# Altium footprint library MainLib.pcblib: 23 footprints (part 1 of 2)
Each footprint in its own frame and in the unit in brackets; x right, y up, seen from the top. Pads: shape width x height; smd on the part's side, far side on the other; paste and mask are expansions set on the pad; w line width, h text height; cw(c..) or ccw(c..) is an arc to the next point about the centre after c.
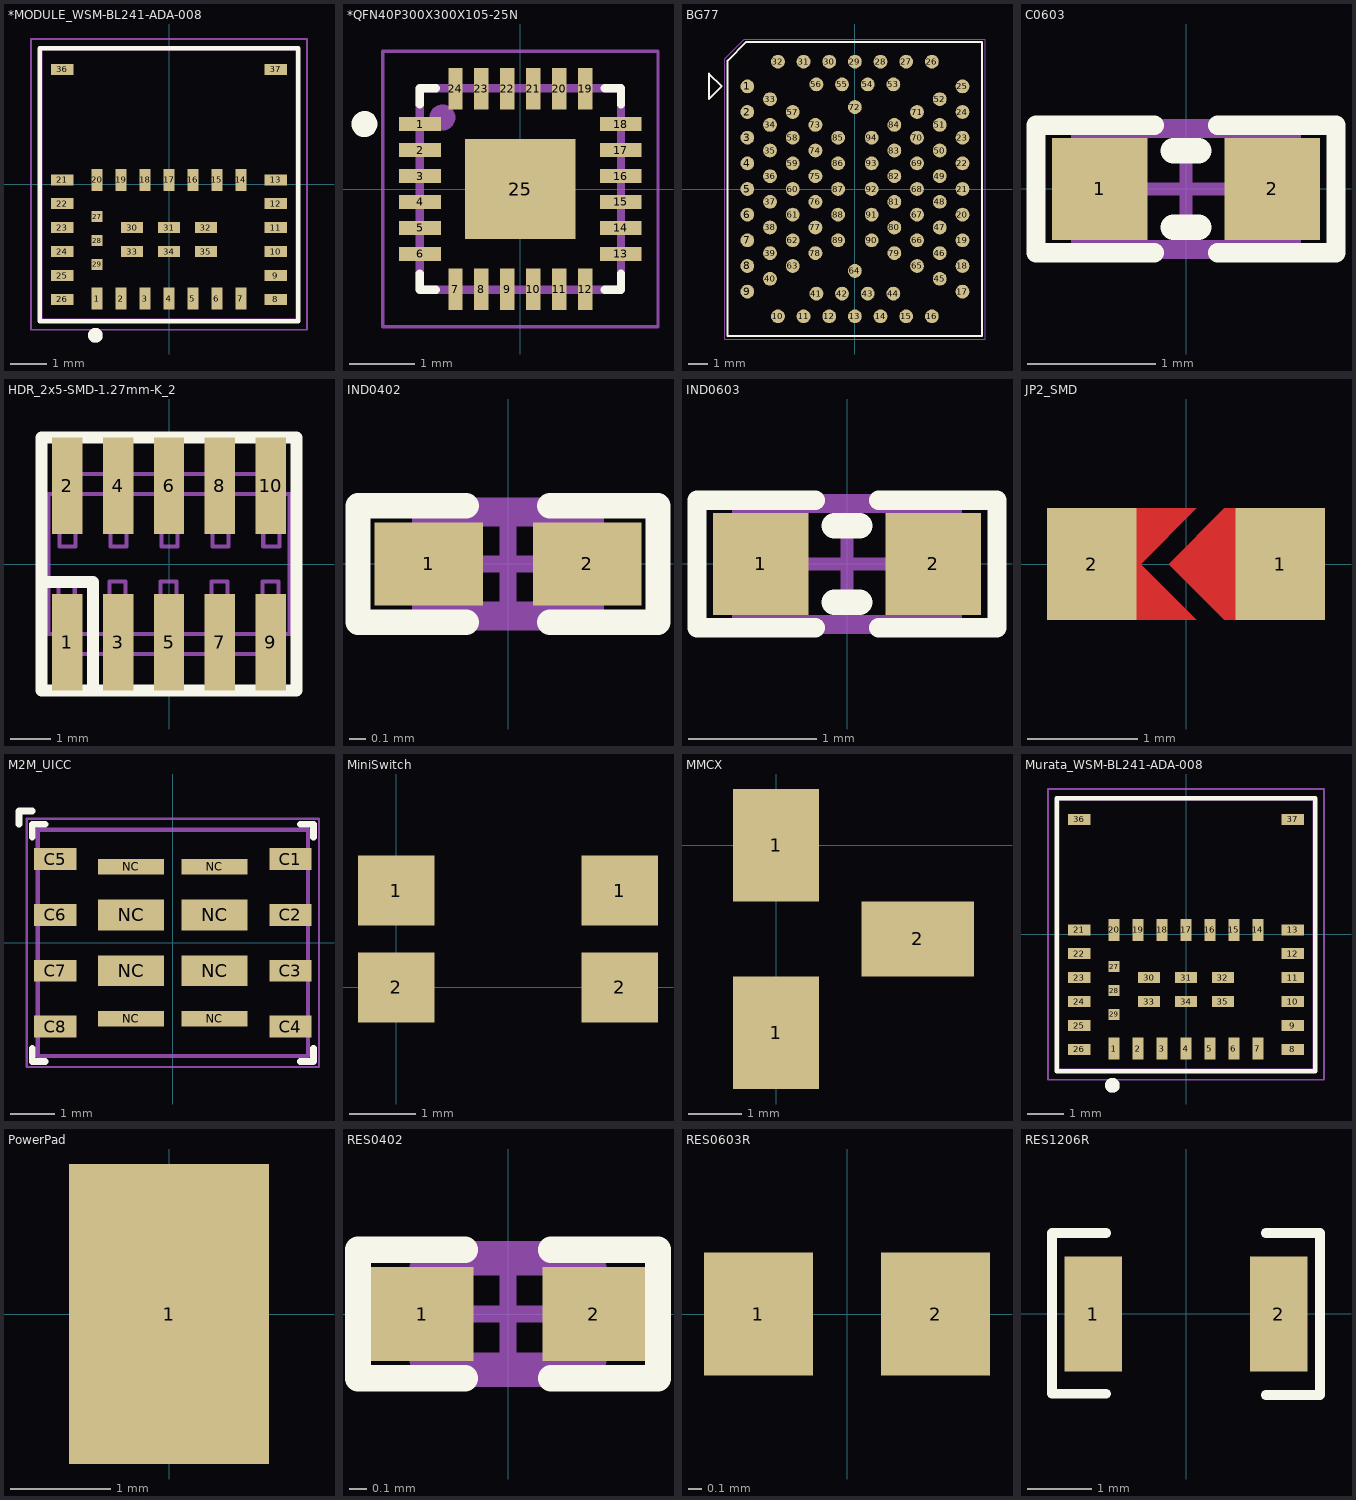
[diagram p0: the footprints below, top view; thin cyan lines are the x and y axes]

## *MODULE_WSM-BL241-ADA-008 [mm]
pads (37):
  rect 0.3x0.6 smd: 1(-1.95,-3.1) 2(-1.3,-3.1) 3(-0.65,-3.1) 4(0,-3.1) 5(0.65,-3.1) 6(1.3,-3.1) 7(1.95,-3.1) 14(1.95,0.125) 15(1.3,0.125) 16(0.65,0.125) 17(0,0.125) 18(-0.65,0.125) 19(-1.3,0.125) 20(-1.95,0.125)
  rect 0.6x0.3 smd: 8(2.9,-3.125) 9(2.9,-2.475) 10(2.9,-1.825) 11(2.9,-1.175) 12(2.9,-0.525) 13(2.9,0.125) 21(-2.9,0.125) 22(-2.9,-0.525) 23(-2.9,-1.175) 24(-2.9,-1.825) 25(-2.9,-2.475) 26(-2.9,-3.125) 30(-1,-1.175) 31(0,-1.175) 32(1,-1.175) 33(-1,-1.825) 34(0,-1.825) 35(1,-1.825) 36(-2.9,3.125) 37(2.9,3.125)
  rect 0.3x0.3 smd: 27(-1.95,-0.875) 28(-1.95,-1.525) 29(-1.95,-2.175)
Top Overlay:
  circle w0.2: c-2,-4.1 r0.1
  lines w0.127: -3.515,-3.715 -3.515,3.7 3.515,3.7 3.515,-3.715 -3.515,-3.715
Mechanical 4:
  circle w0.2: c-2,-4.1 r0.1
  circle w0.2: c-2,-4.1 r0.1
  lines w0.127: -3.5,-3.7 3.5,-3.7 ; -3.5,-3.7 -3.5,3.7 ; -3.5,-3.7 3.5,-3.7 ; -3.5,-3.7 -3.5,3.7 ; -3.5,3.7 3.5,3.7 ; -3.5,3.7 3.5,3.7 ; 3.5,-3.7 3.5,3.7 ; 3.5,-3.7 3.5,3.7
Mechanical 16:
  lines w0.05: -3.75,-3.95 3.75,-3.95 3.75,3.95 -3.75,3.95 -3.75,-3.95
3D body: height 0.76, standoff 0, extent -3.505,-3.708 3.505,3.683

## *QFN40P300X300X105-25N [mm]
pads (25):
  rect 0.64x0.22 smd: 1(-1.545,1) 2(-1.545,0.6) 3(-1.545,0.2) 4(-1.545,-0.2) 5(-1.545,-0.6) 6(-1.545,-1) 13(1.545,-1) 14(1.545,-0.6) 15(1.545,-0.2) 16(1.545,0.2) 17(1.545,0.6) 18(1.545,1)
  rect 0.22x0.64 smd: 7(-1,-1.545) 8(-0.6,-1.545) 9(-0.2,-1.545) 10(0.2,-1.545) 11(0.6,-1.545) 12(1,-1.545) 19(1,1.545) 20(0.6,1.545) 21(0.2,1.545) 22(-0.2,1.545) 23(-0.6,1.545) 24(-1,1.545)
  rect 1.7x1.54 smd: 25(0,0)
Top Overlay:
  circle w0.2: c-2.4,1 r0.1
  lines w0.127: -1.55,-1.3 -1.55,-1.55 -1.3,-1.55 ; -1.55,1.3 -1.55,1.55 -1.3,1.55 ; 1.3,-1.55 1.55,-1.55 1.55,-1.3 ; 1.3,1.55 1.55,1.55 1.55,1.3
Top Paste:
  region: 0.08,-0.08 0.69,-0.08 0.69,-0.61 0.08,-0.61
  region: -0.691,-0.08 -0.08,-0.08 -0.08,-0.611 -0.691,-0.611
  region: 0.08,0.61 0.69,0.61 0.69,0.08 0.08,0.08
  region: -0.69,0.61 -0.08,0.61 -0.08,0.08 -0.69,0.08
Mechanical 4:
  circle w0.2: c-1.2,1.1 r0.1
  circle w0.2: c-1.2,1.1 r0.1
  lines w0.127: -1.55,-1.55 -1.55,1.55 ; -1.55,-1.55 1.55,-1.55 ; -1.55,-1.55 -1.55,1.55 ; -1.55,-1.55 1.55,-1.55 ; -1.55,1.55 1.55,1.55 ; -1.55,1.55 1.55,1.55 ; 1.55,-1.55 1.55,1.55 ; 1.55,-1.55 1.55,1.55
Mechanical 16:
  lines w0.05: -2.12,-2.12 -2.12,2.12 2.12,2.12 2.12,-2.12 -2.12,-2.12
3D body "ICM-20948--3DModel-STEP-56544.STEP": height 1, standoff -0.05, extent -1.5,-1.5 1.5,1.5

## BG77 [mm]
height 1.7
pads (94):
  round 0.7 smd mask+0.05: 1(-5.45,5.2) 2(-5.45,3.9) 3(-5.45,2.6) 4(-5.45,1.3) 5(-5.45,0) 6(-5.45,-1.3) 7(-5.45,-2.6) 8(-5.45,-3.9) 9(-5.45,-5.2) 10(-3.9,-6.45) 11(-2.6,-6.45) 12(-1.3,-6.45) 13(0,-6.45) 14(1.3,-6.45) 15(2.6,-6.45) 16(3.9,-6.45) 17(5.45,-5.2) 18(5.45,-3.9) 19(5.45,-2.6) 20(5.45,-1.3) 21(5.45,0) 22(5.45,1.3) 23(5.45,2.6) 24(5.45,3.9) 25(5.45,5.2) 26(3.9,6.45) 27(2.6,6.45) 28(1.3,6.45) 29(0,6.45) 30(-1.3,6.45) 31(-2.6,6.45) 32(-3.9,6.45) 33(-4.3,4.55) 34(-4.3,3.25) 35(-4.3,1.95) 36(-4.3,0.65) 37(-4.3,-0.65) 38(-4.3,-1.95) 39(-4.3,-3.25) 40(-4.3,-4.55) 41(-1.95,-5.3) 42(-0.65,-5.3) 43(0.65,-5.3) 44(1.95,-5.3) 45(4.3,-4.55) 46(4.3,-3.25) 47(4.3,-1.95) 48(4.3,-0.65) 49(4.3,0.65) 50(4.3,1.95) 51(4.3,3.25) 52(4.3,4.55) 53(1.95,5.3) 54(0.65,5.3) 55(-0.65,5.3) 56(-1.95,5.3) 57(-3.15,3.9) 58(-3.15,2.6) 59(-3.15,1.3) 60(-3.15,0) 61(-3.15,-1.3) 62(-3.15,-2.6) 63(-3.15,-3.9) 64(0,-4.15) 65(3.15,-3.9) 66(3.15,-2.6) 67(3.15,-1.3) 68(3.15,0) 69(3.15,1.3) 70(3.15,2.6) 71(3.15,3.9) 72(0,4.15) 73(-2,3.25) 74(-2,1.95) 75(-2,0.65) 76(-2,-0.65) 77(-2,-1.95) 78(-2,-3.25) 79(2,-3.25) 80(2,-1.95) 81(2,-0.65) 82(2,0.65) 83(2,1.95) 84(2,3.25) 85(-0.85,2.6) 86(-0.85,1.3) 87(-0.85,0) 88(-0.85,-1.3) 89(-0.85,-2.6) 90(0.85,-2.6) 91(0.85,-1.3) 92(0.85,0) 93(0.85,1.3) 94(0.85,2.6)
Top Overlay:
  lines w0.1: -7.4,4.55 -7.4,5.85 -6.75,5.2 -7.4,4.55 ; -6.45,-7.45 -6.45,6.5 -5.5,7.45 6.45,7.45 6.45,-7.45 -6.45,-7.45
Mechanical 1:
  lines w0.01: -6.6,-7.6 -6.6,6.6 -5.6,7.6 6.6,7.6 6.6,-7.6 -6.6,-7.6
3D body "Quectel_BG77_3D_Dimensions.stp": height 1.7, standoff 0, extent -6.45,-7.45 6.45,7.45

## C0603 [mm]
pads (2):
  rect 0.75x0.8 smd: 1(-0.675,0) 2(0.675,0)
Top Overlay:
  lines w0.152: -0.25,-0.5 -1.175,-0.5 -1.175,0.5 -0.25,0.5 ; 0.25,-0.5 1.175,-0.5 1.175,0.5 0.25,0.5
  lines w0.2: -0.1,-0.3 0.1,-0.3 ; -0.1,0.3 0.1,0.3
Mechanical 7:
  lines w0.1: -0.85,-0.45 0.85,-0.45 0.85,0.45 -0.85,0.45 -0.85,-0.45
Mechanical 15:
  lines w0.1: -0.45,0 0.45,0 ; 0,-0.45 0,0.45 ; -1.175,-0.5 -1.175,0.5 1.175,0.5 1.175,-0.5 -1.175,-0.5
3D body "User Library-Chip Capacitor 0603.step": height 0.8, standoff 0, extent -0.8,-0.381 0.8,0.479

## HDR_2x5-SMD-1.27mm-K_2 [mm]
pads (10):
  rect 0.76x2.4 smd: 1(-2.54,-1.95) 2(-2.54,1.95) 3(-1.27,-1.95) 4(-1.27,1.95) 5(0,-1.95) 6(0,1.95) 7(1.27,-1.95) 8(1.27,1.95) 9(2.54,-1.95) 10(2.54,1.95)
Top Overlay:
  lines w0.3: -3.175,-0.45 -1.9,-0.45 -1.9,-3.15 ; -3.175,-3.15 3.175,-3.15 3.175,3.15 -3.175,3.15 -3.175,-3.15
Mechanical 7:
  lines w0.1: -2.74,-1.75 -2.74,-2.459 ccw(c-2.54,-2.459) -2.34,-2.459 -2.34,-2.25 ; -2.74,1.75 -2.74,2.459 cw(c-2.54,2.459) -2.34,2.459 -2.34,2.25 ; -2.5,-1.75 -2.5,-2.25 -1.25,-2.25 ; -2.5,1.75 -2.5,2.25 2.5,2.25 2.5,1.75 ; -1.47,-2.25 -1.47,-2.459 ccw(c-1.27,-2.459) -1.07,-2.459 -1.07,-2.25 ; -1.47,2.25 -1.47,2.459 cw(c-1.27,2.459) -1.07,2.459 -1.07,2.25 ; -1.25,-1.75 -1.25,-2.25 ; -0.2,-2.25 -0.2,-2.459 ccw(c0,-2.459) 0.2,-2.459 0.2,-2.25 ; -0.2,2.25 -0.2,2.459 cw(c0,2.459) 0.2,2.459 0.2,2.25 ; 1.07,-2.25 1.07,-2.459 ccw(c1.27,-2.459) 1.47,-2.459 1.47,-2.25 ; 1.07,2.25 1.07,2.459 cw(c1.27,2.459) 1.47,2.459 1.47,2.25 ; 1.25,-1.75 1.25,-2.25 ; 2.34,-2.25 2.34,-2.459 ccw(c2.54,-2.459) 2.74,-2.459 2.74,-1.75 ; 2.34,2.25 2.34,2.459 cw(c2.54,2.459) 2.74,2.459 2.74,1.75 ; 2.5,-1.75 2.5,-2.25 1.25,-2.25 ; -1.25,-2.25 1.25,-2.25 ; -3,-1.75 -3,1.75 3,1.75 3,-1.75 -3,-1.75 ; -2.75,-0.835 -2.75,-0.435 -2.35,-0.435 -2.35,-0.835 -2.75,-0.835 ; -2.73,0.435 -2.73,0.835 -2.33,0.835 -2.33,0.435 -2.73,0.435 ; -1.48,-0.835 -1.48,-0.435 -1.08,-0.435 -1.08,-0.835 -1.48,-0.835 ; -1.46,0.435 -1.46,0.835 -1.06,0.835 -1.06,0.435 -1.46,0.435 ; -0.21,-0.835 -0.21,-0.435 0.19,-0.435 0.19,-0.835 -0.21,-0.835 ; -0.19,0.435 -0.19,0.835 0.21,0.835 0.21,0.435 -0.19,0.435 ; 1.06,-0.835 1.06,-0.435 1.46,-0.435 1.46,-0.835 1.06,-0.835 ; 1.08,0.435 1.08,0.835 1.48,0.835 1.48,0.435 1.08,0.435 ; 2.33,-0.835 2.33,-0.435 2.73,-0.435 2.73,-0.835 2.33,-0.835 ; 2.35,0.435 2.35,0.835 2.75,0.835 2.75,0.435 2.35,0.435
3D body "Samtec-FTSH-105-01-F-DV-K.step": height 6.11, standoff -0.01, extent -3.137,-2.921 3.137,2.921

## IND0402 [mm]
pads (2):
  rect 0.65x0.5 smd: 1(-0.475,0) 2(0.475,0)
Top Overlay:
  lines w0.152: -0.25,-0.35 -0.9,-0.35 -0.9,0.35 -0.25,0.35 ; 0.25,-0.35 0.9,-0.35 0.9,0.35 0.25,0.35
Mechanical 7:
  lines w0.1: -0.525,-0.275 -0.525,0.275 0.525,0.275 0.525,-0.275 -0.525,-0.275
  text ".Designator" at -0.432,-0.152 h0.3
Mechanical 15:
  lines w0.1: -0.275,0 0.275,0 ; 0,-0.275 0,0.275 ; -0.9,-0.35 -0.9,0.35 0.9,0.35 0.9,-0.35 -0.9,-0.35
3D body "User Library-Chip Inductor 0402.step": height 0.5, standoff 0, extent -0.5,-0.3 0.5,0.3

## IND0603 [mm]
pads (2):
  rect 0.75x0.8 smd: 1(-0.675,0) 2(0.675,0)
Top Overlay:
  lines w0.152: -0.25,-0.5 -1.175,-0.5 -1.175,0.5 -0.25,0.5 ; 0.25,-0.5 1.175,-0.5 1.175,0.5 0.25,0.5
  lines w0.2: -0.1,-0.3 0.1,-0.3 ; -0.1,0.3 0.1,0.3
Mechanical 7:
  lines w0.1: -0.85,-0.45 0.85,-0.45 0.85,0.45 -0.85,0.45 -0.85,-0.45
  text ".Designator" at -0.7,-0.2 h0.38
Mechanical 15:
  lines w0.1: -0.45,0 0.45,0 ; 0,-0.45 0,0.45 ; -1.175,-0.5 -1.175,0.5 1.175,0.5 1.175,-0.5 -1.175,-0.5
3D body "User Library-Chip Inductor.step": height 0.8, standoff 0, extent -0.8,-0.475 0.8,0.475

## JP2_SMD [mil]
pads (2):
  rect 32x40 smd: 1(33.75,0) 2(-33.75,0)
Top Layer:
  region: -26.25,0 -16.25,0 3.75,-20 -26.25,-20
  region: -26.25,0 -16.25,0 3.75,20 -26.25,20
  region: 23.75,20 13.75,20 -6.25,0 13.75,-20 23.75,-20
Top Paste:
  region: -26.25,0 -16.25,0 3.75,-20 -26.25,-20
  region: -26.25,0 -16.25,0 3.75,20 -26.25,20
  region: 23.75,20 13.75,20 -6.25,0 13.75,-20 23.75,-20
Top Solder:
  region: -26.25,0 -12.25,0 11.75,-24 -26.25,-24
  region: -26.25,0 -12.25,0 11.75,24 -26.25,24
  region: 23.75,24 13.75,24 -10.25,0 13.75,-24 23.75,-24

## M2M_UICC [mm]
pads (16):
  rect 0.96x0.5 smd: C1(2.675,1.905) C2(2.675,0.635) C3(2.675,-0.635) C4(2.675,-1.905) C5(-2.675,1.905) C6(-2.675,0.635) C7(-2.675,-0.635) C8(-2.675,-1.905)
  rect 1.5x0.7 smd: NC(-0.95,-0.635) NC(-0.95,0.635) NC(0.95,-0.635) NC(0.95,0.635)
  rect 1.5x0.35 smd: NC(-0.95,-1.73) NC(-0.95,1.73) NC(0.95,-1.73) NC(0.95,1.73)
Top Overlay:
  lines w0.15: -3.5,2.7 -3.5,3 -3.2,3 ; -3.2,-2.4 -3.2,-2.7 -2.9,-2.7 ; -3.2,2.4 -3.2,2.7 -2.9,2.7 ; 2.9,-2.7 3.2,-2.7 3.2,-2.4 ; 2.9,2.7 3.2,2.7 3.2,2.4
Mechanical 7:
  lines w0.1: -3.075,-2.575 -3.075,2.575 3.075,2.575 3.075,-2.575 -3.075,-2.575
Mechanical 15:
  circle w0.2: c-2.4,1.9 r0.05
  lines w0.05: -3.325,-2.825 -3.325,2.825 3.325,2.825 3.325,-2.825 -3.325,-2.825
3D body: height 0.5, standoff 0, extent -3.157,-2.674 3.175,2.667

## MiniSwitch [mm]
pads (4):
  rect 1.15x1.05 smd: 1(0,1.45) 1(3.35,1.45) 2(0,0) 2(3.35,0)
3D body "EVPAA-002K_202K_402W_602W_802Q.STEP": height 1.7, standoff 0, extent -0.433,-0.783 3.867,2.326

## MMCX [mm]
pads (3):
  rect 1.6x2.1 smd: 1(0,-3.5) 1(0,0)
  rect 2.1x1.4 smd: 2(2.65,-1.75)
3D body "HUBER+SUHNER 85_MMCX-S50-0-55119_OM 3DModel.stp": height 4.9, standoff 0, extent -1.835,-4.191 3.175,0.709

## Murata_WSM-BL241-ADA-008 [mm]
pads (37):
  rect 0.3x0.6 smd: 1(-1.95,-3.1) 2(-1.3,-3.1) 3(-0.65,-3.1) 4(0,-3.1) 5(0.65,-3.1) 6(1.3,-3.1) 7(1.95,-3.1) 14(1.95,0.125) 15(1.3,0.125) 16(0.65,0.125) 17(0,0.125) 18(-0.65,0.125) 19(-1.3,0.125) 20(-1.95,0.125)
  rect 0.6x0.3 smd: 8(2.9,-3.125) 9(2.9,-2.475) 10(2.9,-1.825) 11(2.9,-1.175) 12(2.9,-0.525) 13(2.9,0.125) 21(-2.9,0.125) 22(-2.9,-0.525) 23(-2.9,-1.175) 24(-2.9,-1.825) 25(-2.9,-2.475) 26(-2.9,-3.125) 30(-1,-1.175) 31(0,-1.175) 32(1,-1.175) 33(-1,-1.825) 34(0,-1.825) 35(1,-1.825) 36(-2.9,3.125) 37(2.9,3.125)
  rect 0.3x0.3 smd: 27(-1.95,-0.875) 28(-1.95,-1.525) 29(-1.95,-2.175)
Top Overlay:
  circle w0.2: c-2,-4.1 r0.1
  lines w0.127: -3.515,-3.715 3.515,-3.715 3.515,3.7 -3.515,3.7 -3.515,-3.715
Mechanical 4:
  circle w0.2: c-2,-4.1 r0.1
  circle w0.2: c-2,-4.1 r0.1
  lines w0.127: -3.5,-3.7 -3.5,3.7 ; -3.5,-3.7 3.5,-3.7 ; -3.5,-3.7 -3.5,3.7 ; -3.5,-3.7 3.5,-3.7 ; -3.5,3.7 3.5,3.7 ; -3.5,3.7 3.5,3.7 ; 3.5,-3.7 3.5,3.7 ; 3.5,-3.7 3.5,3.7
Mechanical 16:
  lines w0.05: -3.75,-3.95 -3.75,3.95 3.75,3.95 3.75,-3.95 -3.75,-3.95
3D body: height 0.76, standoff 0, extent -3.505,-3.708 3.505,3.683

## PowerPad [mm]
pads (1):
  rect 2x3 all layers, no hole: 1(0,0)

## RES0402 [mm]
pads (2):
  rect 0.6x0.55 smd: 1(-0.5,0) 2(0.5,0)
Top Overlay:
  lines w0.152: -0.25,-0.375 -0.875,-0.375 -0.875,0.375 -0.25,0.375 ; 0.25,-0.375 0.875,-0.375 0.875,0.375 0.25,0.375
Mechanical 7:
  lines w0.1: -0.525,-0.275 -0.525,0.275 0.525,0.275 0.525,-0.275 -0.525,-0.275
  text ".Designator" at -0.432,-0.152 h0.3
Mechanical 15:
  lines w0.1: -0.275,0 0.275,0 ; 0,-0.275 0,0.275 ; -0.875,-0.375 0.875,-0.375 0.875,0.375 -0.875,0.375 -0.875,-0.375
3D body "User Library-res0402-1.step": height 0.3, standoff 0, extent -0.5,-0.25 0.5,0.25

## RES0603R [mm] "resistor 0603 reflow soldering"
pads (2):
  rect 0.8x0.9 smd: 1(-0.65,0) 2(0.65,0)
3D body "res0603.stp": height 0.45, standoff 0, extent -0.8,-0.4 0.8,0.4

## RES1206R [mm]
pads (2):
  rect 0.9x1.8 smd: 1(-1.45,0) 2(1.45,0)
Top Overlay:
  lines w0.152: -1.25,-1.25 -2.1,-1.25 -2.1,1.27 -1.25,1.27 ; 1.25,-1.27 2.1,-1.27 2.1,1.27 1.25,1.27
3D body "RES1206.stp": height 0.55, standoff 0, extent -1.5,-0.775 1.6,0.777